# EAGLE library part JTAG_JTAG10 (library jtag)
10 pin JTAG connector Chinese adapter
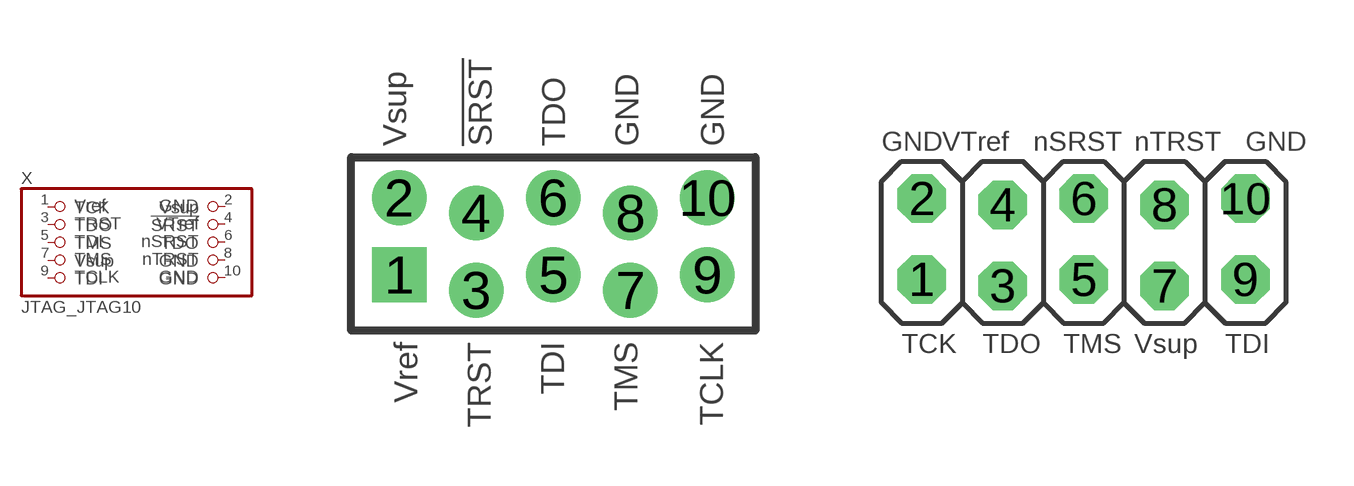
[diagram p0: symbol with the pads of JTAG_2X05M-JTAG; footprints JTAG_2X05M-JTAG, JTAG_2X05-JTAG]

Designator prefix X

## JTAG_JTAG10_2.00  [JTAG_2X05M-JTAG]
1  1  pas
2  2  pas
3  3  pas
4  4  pas
5  5  pas
6  6  pas
7  7  pas
8  8  pas
9  9  pas
10  10  pas

## JTAG_JTAG10_2.54  [JTAG_2X05-JTAG]
Pads as for JTAG_2X05M-JTAG

## JTAG_JTAG10_2.54-90°  [JTAG_2X05/90]
Pads as for JTAG_2X05M-JTAG

## JTAG_JTAG10_2.54-SMD  [JTAG_2X05SMD]
Pads as for JTAG_2X05M-JTAG

## JTAG_JTAG10_2.54-SMD-90°  [JTAG_2X05SMD/90]
Pads as for JTAG_2X05M-JTAG

## JTAG_JTAG10_MICROMATCH  [JTAG_MICROMATCH-10]
Pads as for JTAG_2X05M-JTAG

## Footprint JTAG_2X05M-JTAG (pad centres in mm)
PIN HEADER - 2
drill 0.914 square: 1 -4,-0.8
drill 0.914: 2 -4,1.2; 3 -2,-1.2; 4 -2,0.8; 5 0,-0.8; 6 0,1.2; 7 2,-1.2; 8 2,0.8; 9 4,-0.8; 10 4,1.2

## Footprint JTAG_2X05-JTAG (pad centres in mm)
PIN HEADER - 2.54
drill 1.016 octagon: 1 -5.08,-1.17; 2 -5.08,1.37; 3 -2.54,-1.37; 4 -2.54,1.17; 5 0,-1.17; 6 0,1.37; 7 2.54,-1.37; 8 2.54,1.17; 9 5.08,-1.17; 10 5.08,1.37

## Footprint JTAG_2X05/90 (pad centres in mm)
PIN HEADER - 2.54 90°
drill 1.016 octagon: 1 -5.08,-6.35; 2 -5.08,-3.81; 3 -2.54,-6.35; 4 -2.54,-3.81; 5 0,-6.35; 6 0,-3.81; 7 2.54,-6.35; 8 2.54,-3.81; 9 5.08,-6.35; 10 5.08,-3.81

## Footprint JTAG_2X05SMD (pad centres in mm)
PIN HEADER - 2.54 SMD
smd 1.016 x 3.302: 1 -1.27,-3.81; 2 -1.27,1.27; 3 1.27,-3.81; 4 1.27,1.27; 5 3.81,-3.81; 6 3.81,1.27; 7 6.35,-3.81; 8 6.35,1.27; 9 8.89,-3.81; 10 8.89,1.27

## Footprint JTAG_2X05SMD/90 (pad centres in mm)
PIN HEADER - 2.54 90°
smd 1.016 x 1.778: 1 -1.27,-8.89; 2 -1.27,-5.08; 3 1.27,-8.89; 4 1.27,-5.08; 5 3.81,-8.89; 6 3.81,-5.08; 7 6.35,-8.89; 8 6.35,-5.08; 9 8.89,-8.89; 10 8.89,-5.08

## Footprint JTAG_MICROMATCH-10 (pad centres in mm)
MicroMaTch 10 8-215464-0 / 1-215464-0 Drawing Number C-215464 DDEController.pdf
drill 0.813: 1 5.715,1.27; 2 4.445,-1.27; 3 3.175,1.27; 4 1.905,-1.27; 5 0.635,1.27; 6 -0.635,-1.27; 7 -1.905,1.27; 8 -3.175,-1.27; 9 -4.445,1.27; 10 -5.715,-1.27